# Altium integrated library Mega2560Pro.IntLib: 1 symbol
Pins are listed as number, name and electrical type; pins without a type are passive.

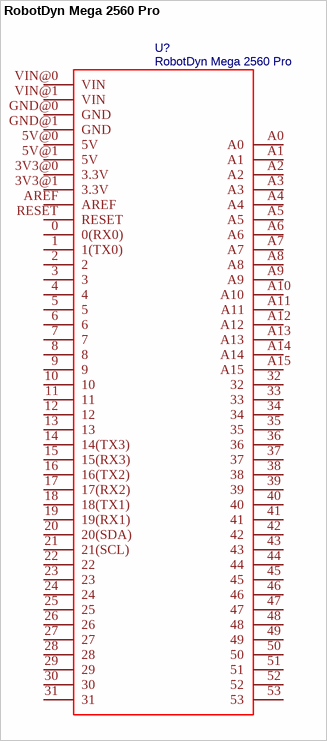
[diagram p0: symbol RobotDyn Mega 2560 Pro]

## RobotDyn Mega 2560 Pro
designator U?
BOM_Manufacturer Part: ?; spicePre: U
footprint Mega2560Pro_Layout
pins: 0 0(RX0), 1 1(TX0), 2, 3, 3V3@0 3.3V, 3V3@1 3.3V, 4, 5, 5V@0 5V, 5V@1 5V, 6, 7, 8, 9, 10, 11, 12, 13, 14 14(TX3), 15 15(RX3), 16 16(TX2), 17 17(RX2), 18 18(TX1), 19 19(RX1), 20 20(SDA), 21 21(SCL), 22, 23, 24, 25, 26, 27, 28, 29, 30, 31, 32, 33, 34, 35, 36, 37, 38, 39, 40, 41, 42, 43, 44, 45, 46, 47, 48, 49, 50, 51, 52, 53, A0, A1, A2, A3, A4, A5, A6, A7, A8, A9, A10, A11, A12, A13, A14, A15, AREF, GND@0 GND, GND@1 GND, RESET, VIN@0 VIN, VIN@1 VIN